# Altium footprint library CAP-V15.PcbLib: 1 footprints
Each footprint in its own frame and in the unit in brackets; x right, y up, seen from the top. Pads: shape width x height; smd on the part's side, far side on the other; paste and mask are expansions set on the pad; w line width, h text height; cw(c..) or ccw(c..) is an arc to the next point about the centre after c.
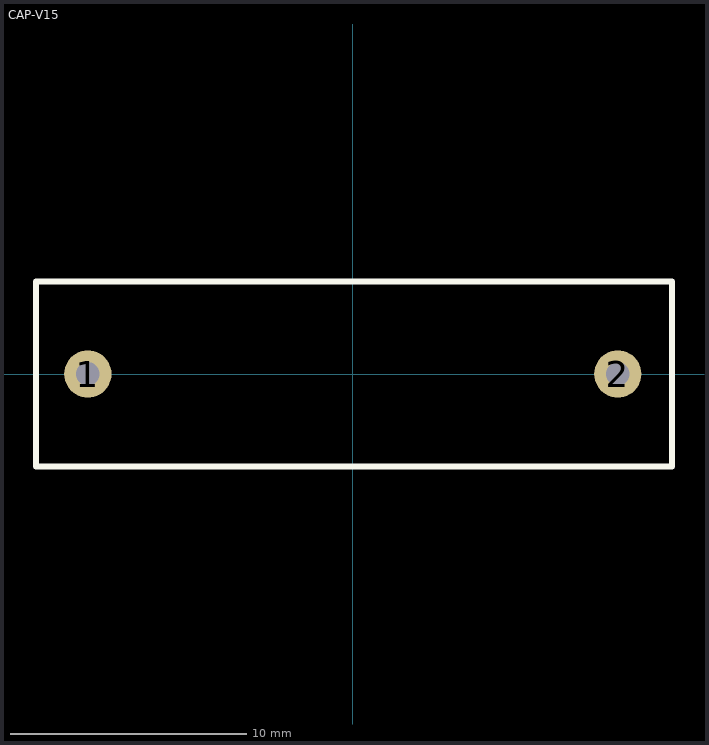
[diagram p0: the footprint, top view; thin cyan lines are the x and y axes]

## CAP-V15 [mm]
height 0.95
pads (2):
  round 2 hole 1: 1(-11.2,0) 2(11.2,0)
Top Overlay:
  lines w0.254: -13.4,-3.9 13.5,-3.9 13.5,3.9 -13.4,3.9 -13.4,-3.9
Top Assembly:
  text "'.Designator'" at -0.925,-0.325 h0.7
3D body "rnd_150j474k330l225e3.stp": height 17, standoff -20, extent -13.2,-3.72 13.3,3.7